# EAGLE library part WH-2004A (library 1my_components)
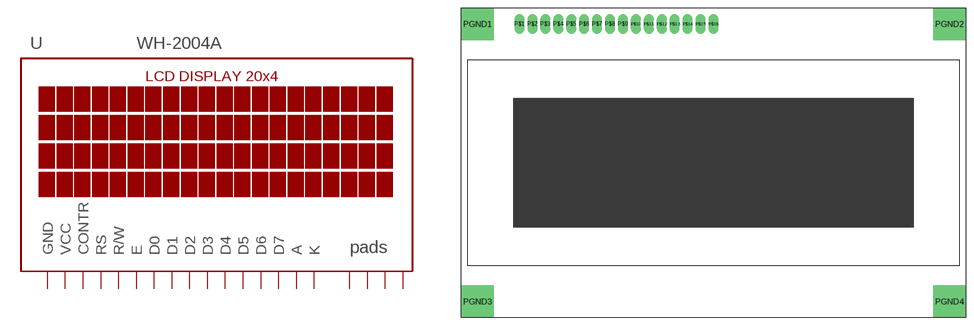
[diagram p0: symbol with the pads of WH-2004A; footprint WH-2004A]

Designator prefix -

## WH-2004A  [WH-2004A]
P$1  GND  pwr
P$2  VCC  pwr
P$3  CONTR  in
P$4  RS  in
P$5  R/W  in
P$6  E  in
P$7  D0  in
P$8  D1  in
P$9  D2  in
P$10  D3  in
P$11  D4  in
P$12  D5  in
P$13  D6  in
P$14  D7  in
P$15  A  pas
P$16  K  pas
PGND1  P$1  pas
PGND2  P$2  pas
PGND3  P$3  pas
PGND4  P$4  pas

## Footprint WH-2004A (pad centres in mm)
LCD display I going to put on this board
drill 0.406 pad 1.93 long: P$1 -38.1,27.305; P$2 -35.56,27.305; P$3 -33.02,27.305; P$4 -30.48,27.305; P$5 -27.94,27.305; P$6 -25.4,27.305; P$7 -22.86,27.305; P$8 -20.32,27.305; P$9 -17.78,27.305; P$10 -15.24,27.305; P$11 -12.7,27.305; P$12 -10.16,27.305; P$13 -7.62,27.305; P$14 -5.08,27.305; P$15 -2.54,27.305; P$16 0,27.305
drill 0.406 pad 6.452 square: PGND1 -46.355,27.305; PGND2 46.355,27.305; PGND3 -46.355,-27.305; PGND4 46.355,-27.305